# EAGLE library part SWITCH_DPDT (library homemade-hardware)
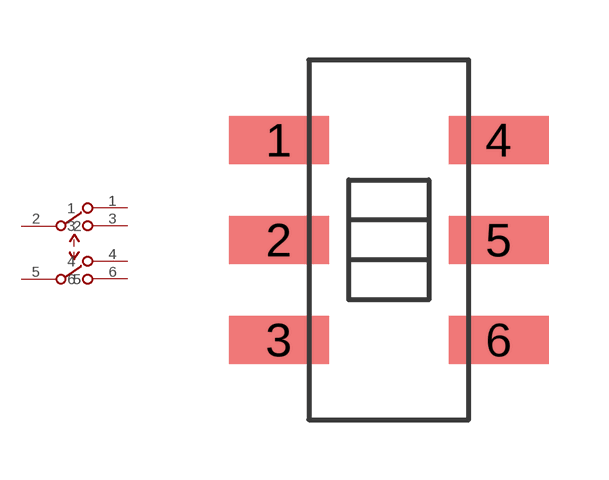
[diagram p21: symbol with the pads of JS202011SCQN; footprint JS202011SCQN]

Designator prefix -

## SWITCH_DPDT  [JS202011SCQN]
1  1
2  2
3  3
4  4
5  5
6  6

## Footprint JS202011SCQN (pad centres in mm)
smd 2.5 x 1.2: 1 -2.75,2.5; 2 -2.75,0; 3 -2.75,-2.5; 4 2.75,2.5; 5 2.75,0; 6 2.75,-2.5